# Altium footprint library Connector_PinHeader_1.00mm.PcbLib: 278 footprints (part 14 of 18)
Each footprint in its own frame and in the unit in brackets; x right, y up, seen from the top. Pads: shape width x height; smd on the part's side, far side on the other; paste and mask are expansions set on the pad; w line width, h text height; cw(c..) or ccw(c..) is an arc to the next point about the centre after c.
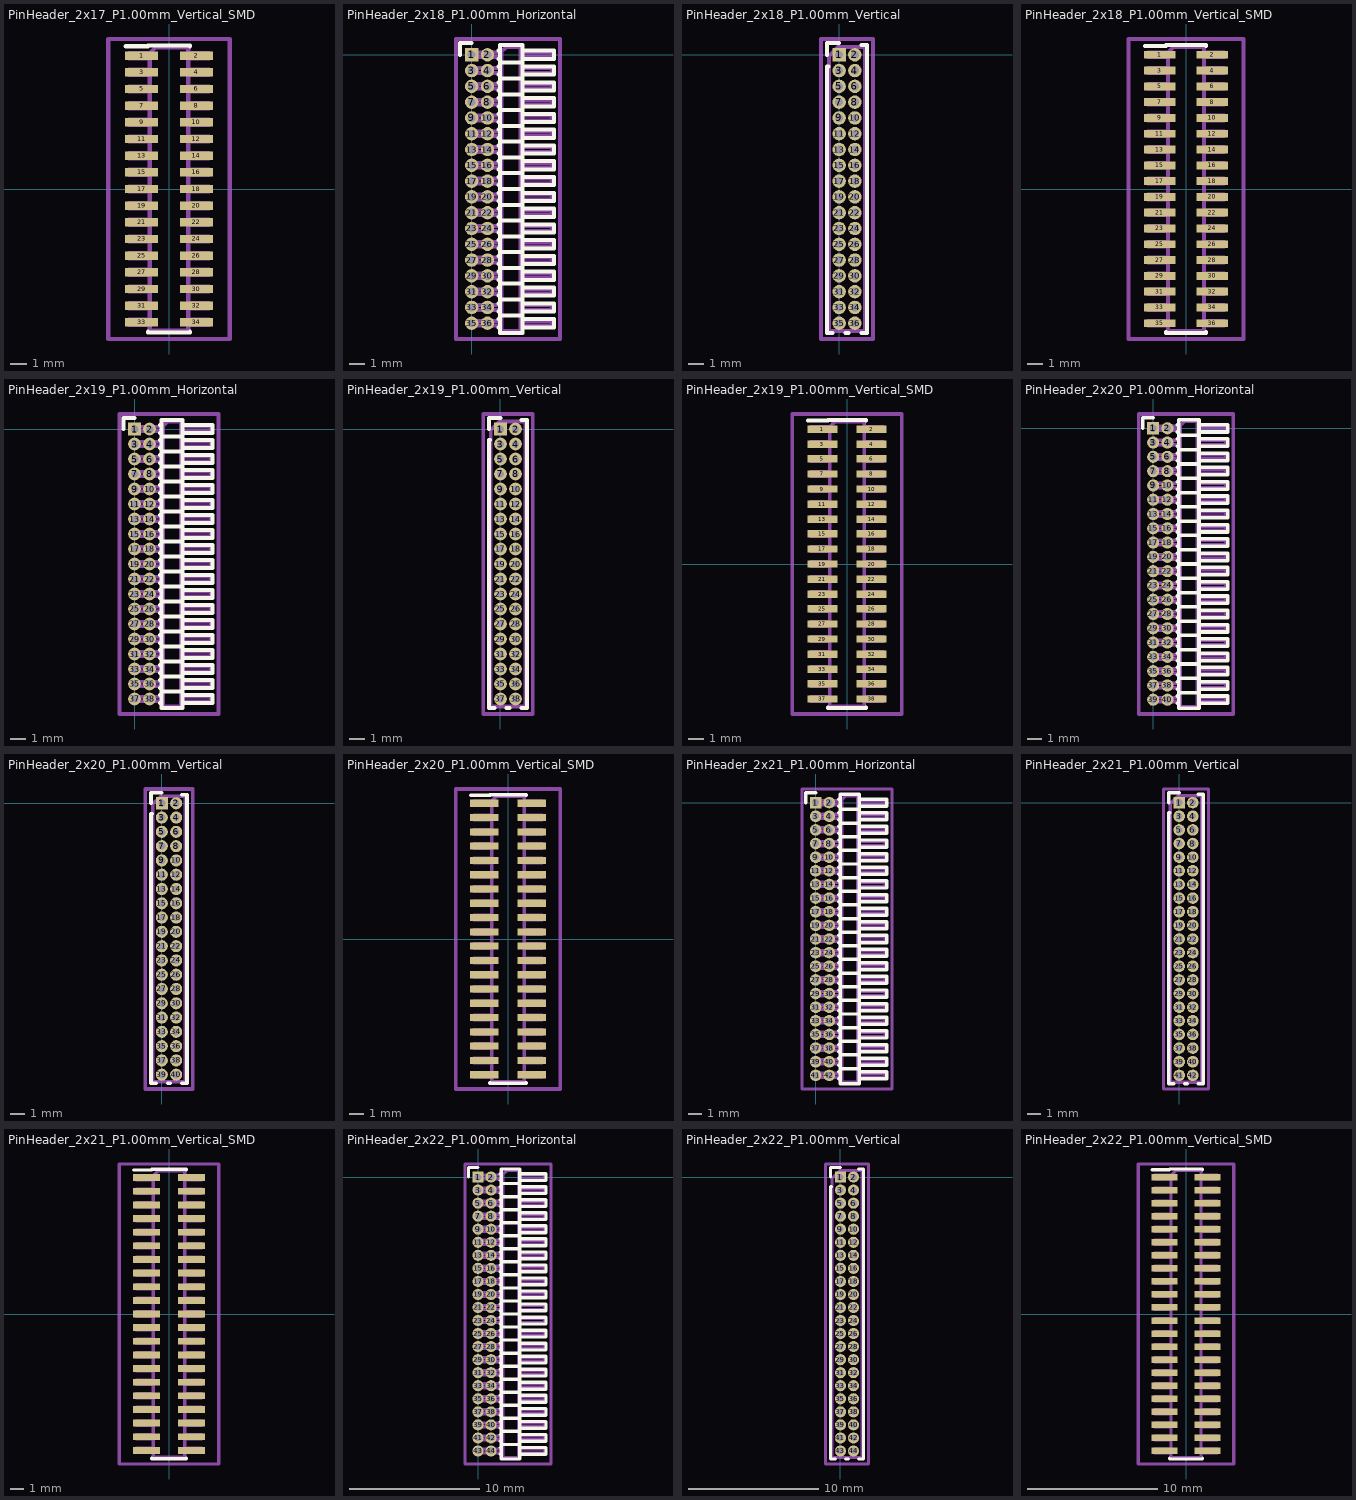
[diagram p13: the footprints below, top view; thin cyan lines are the x and y axes]

## PinHeader_2x17_P1.00mm_Vertical_SMD [mm]
pads (34):
  rect 2x0.5 smd: 1(-1.65,8) 2(1.65,8) 3(-1.65,7) 4(1.65,7) 5(-1.65,6) 6(1.65,6) 7(-1.65,5) 8(1.65,5) 9(-1.65,4) 10(1.65,4) 11(-1.65,3) 12(1.65,3) 13(-1.65,2) 14(1.65,2) 15(-1.65,1) 16(1.65,1) 17(-1.65,0) 18(1.65,0) 19(-1.65,-1) 20(1.65,-1) 21(-1.65,-2) 22(1.65,-2) 23(-1.65,-3) 24(1.65,-3) 25(-1.65,-4) 26(1.65,-4) 27(-1.65,-5) 28(1.65,-5) 29(-1.65,-6) 30(1.65,-6) 31(-1.65,-7) 32(1.65,-7) 33(-1.65,-8) 34(1.65,-8)
F.SilkS:
  lines w0.254: -2.59,8.56 -1.26,8.56 -1.26,8.61 1.26,8.61 1.26,8.56 ; -1.26,-8.56 -1.26,-8.61 1.26,-8.61 1.26,-8.56
Top Assembly:
  lines w0.254: -1.15,-8.15 -2.4,-8.15 -2.4,-7.85 -1.15,-7.85 ; -1.15,-7.15 -2.4,-7.15 -2.4,-6.85 -1.15,-6.85 ; -1.15,-6.15 -2.4,-6.15 -2.4,-5.85 -1.15,-5.85 ; -1.15,-5.15 -2.4,-5.15 -2.4,-4.85 -1.15,-4.85 ; -1.15,-4.15 -2.4,-4.15 -2.4,-3.85 -1.15,-3.85 ; -1.15,-3.15 -2.4,-3.15 -2.4,-2.85 -1.15,-2.85 ; -1.15,-2.15 -2.4,-2.15 -2.4,-1.85 -1.15,-1.85 ; -1.15,-1.15 -2.4,-1.15 -2.4,-0.85 -1.15,-0.85 ; -1.15,-0.15 -2.4,-0.15 -2.4,0.15 -1.15,0.15 ; -1.15,0.85 -2.4,0.85 -2.4,1.15 -1.15,1.15 ; -1.15,1.85 -2.4,1.85 -2.4,2.15 -1.15,2.15 ; -1.15,2.85 -2.4,2.85 -2.4,3.15 -1.15,3.15 ; -1.15,3.85 -2.4,3.85 -2.4,4.15 -1.15,4.15 ; -1.15,4.85 -2.4,4.85 -2.4,5.15 -1.15,5.15 ; -1.15,5.85 -2.4,5.85 -2.4,6.15 -1.15,6.15 ; -1.15,6.85 -2.4,6.85 -2.4,7.15 -1.15,7.15 ; -1.15,7.85 -2.4,7.85 -2.4,8.15 -1.15,8.15 ; 1.15,-8.15 2.4,-8.15 2.4,-7.85 1.15,-7.85 ; 1.15,-7.15 2.4,-7.15 2.4,-6.85 1.15,-6.85 ; 1.15,-6.15 2.4,-6.15 2.4,-5.85 1.15,-5.85 ; 1.15,-5.15 2.4,-5.15 2.4,-4.85 1.15,-4.85 ; 1.15,-4.15 2.4,-4.15 2.4,-3.85 1.15,-3.85 ; 1.15,-3.15 2.4,-3.15 2.4,-2.85 1.15,-2.85 ; 1.15,-2.15 2.4,-2.15 2.4,-1.85 1.15,-1.85 ; 1.15,-1.15 2.4,-1.15 2.4,-0.85 1.15,-0.85 ; 1.15,-0.15 2.4,-0.15 2.4,0.15 1.15,0.15 ; 1.15,0.85 2.4,0.85 2.4,1.15 1.15,1.15 ; 1.15,1.85 2.4,1.85 2.4,2.15 1.15,2.15 ; 1.15,2.85 2.4,2.85 2.4,3.15 1.15,3.15 ; 1.15,3.85 2.4,3.85 2.4,4.15 1.15,4.15 ; 1.15,4.85 2.4,4.85 2.4,5.15 1.15,5.15 ; 1.15,5.85 2.4,5.85 2.4,6.15 1.15,6.15 ; 1.15,6.85 2.4,6.85 2.4,7.15 1.15,7.15 ; 1.15,7.85 2.4,7.85 2.4,8.15 1.15,8.15 ; -1.15,8.15 -1.15,-8.5 1.15,-8.5 1.15,8.5 -0.8,8.5 -1.15,8.15
  text "'.Designator'" at 0.84,-4.047 h1
Top Courtyard:
  lines w0.254: -3.65,-9 3.65,-9 3.65,9 -3.65,9 -3.65,-9
Top Designator:
  text ".Designator" at -7.618,-0.508 h1.52

## PinHeader_2x18_P1.00mm_Horizontal [mm]
pads (36):
  rect 0.85x0.85 hole 0.5: 1(0,0)
  round 0.85 hole 0.5: 2(1,0) 3(0,-1) 4(1,-1) 5(0,-2) 6(1,-2) 7(0,-3) 8(1,-3) 9(0,-4) 10(1,-4) 11(0,-5) 12(1,-5) 13(0,-6) 14(1,-6) 15(0,-7) 16(1,-7) 17(0,-8) 18(1,-8) 19(0,-9) 20(1,-9) 21(0,-10) 22(1,-10) 23(0,-11) 24(1,-11) 25(0,-12) 26(1,-12) 27(0,-13) 28(1,-13) 29(0,-14) 30(1,-14) 31(0,-15) 32(1,-15) 33(0,-16) 34(1,-16) 35(0,-17) 36(1,-17)
F.SilkS:
  lines w0.254: -0.735,0 -0.735,0.735 0,0.735 ; 1.687,-17.26 1.79,-17.26 ; 1.687,-16.74 1.79,-16.74 ; 1.687,-16.26 1.79,-16.26 ; 1.687,-15.74 1.79,-15.74 ; 1.687,-15.26 1.79,-15.26 ; 1.687,-14.74 1.79,-14.74 ; 1.687,-14.26 1.79,-14.26 ; 1.687,-13.74 1.79,-13.74 ; 1.687,-13.26 1.79,-13.26 ; 1.687,-12.74 1.79,-12.74 ; 1.687,-12.26 1.79,-12.26 ; 1.687,-11.74 1.79,-11.74 ; 1.687,-11.26 1.79,-11.26 ; 1.687,-10.74 1.79,-10.74 ; 1.687,-10.26 1.79,-10.26 ; 1.687,-9.74 1.79,-9.74 ; 1.687,-9.26 1.79,-9.26 ; 1.687,-8.74 1.79,-8.74 ; 1.687,-8.26 1.79,-8.26 ; 1.687,-7.74 1.79,-7.74 ; 1.687,-7.26 1.79,-7.26 ; 1.687,-6.74 1.79,-6.74 ; 1.687,-6.26 1.79,-6.26 ; 1.687,-5.74 1.79,-5.74 ; 1.687,-5.26 1.79,-5.26 ; 1.687,-4.74 1.79,-4.74 ; 1.687,-4.26 1.79,-4.26 ; 1.687,-3.74 1.79,-3.74 ; 1.687,-3.26 1.79,-3.26 ; 1.687,-2.74 1.79,-2.74 ; 1.687,-2.26 1.79,-2.26 ; 1.687,-1.74 1.79,-1.74 ; 1.687,-1.26 1.79,-1.26 ; 1.687,-0.74 1.79,-0.74 ; 1.687,-0.26 1.79,-0.26 ; 1.687,0.26 1.79,0.26 ; 1.79,-16.5 3.21,-16.5 ; 1.79,-15.5 3.21,-15.5 ; 1.79,-14.5 3.21,-14.5 ; 1.79,-13.5 3.21,-13.5 ; 1.79,-12.5 3.21,-12.5 ; 1.79,-11.5 3.21,-11.5 ; 1.79,-10.5 3.21,-10.5 ; 1.79,-9.5 3.21,-9.5 ; 1.79,-8.5 3.21,-8.5 ; 1.79,-7.5 3.21,-7.5 ; 1.79,-6.5 3.21,-6.5 ; 1.79,-5.5 3.21,-5.5 ; 1.79,-4.5 3.21,-4.5 ; 1.79,-3.5 3.21,-3.5 ; 1.79,-2.5 3.21,-2.5 ; 1.79,-1.5 3.21,-1.5 ; 1.79,-0.5 3.21,-0.5 ; 3.21,-17.26 5.21,-17.26 5.21,-16.74 3.21,-16.74 ; 3.21,-16.26 5.21,-16.26 5.21,-15.74 3.21,-15.74 ; 3.21,-15.26 5.21,-15.26 5.21,-14.74 3.21,-14.74 ; 3.21,-14.26 5.21,-14.26 5.21,-13.74 3.21,-13.74 ; 3.21,-13.26 5.21,-13.26 5.21,-12.74 3.21,-12.74 ; 3.21,-12.26 5.21,-12.26 5.21,-11.74 3.21,-11.74 ; 3.21,-11.26 5.21,-11.26 5.21,-10.74 3.21,-10.74 ; 3.21,-10.26 5.21,-10.26 5.21,-9.74 3.21,-9.74 ; 3.21,-9.26 5.21,-9.26 5.21,-8.74 3.21,-8.74 ; 3.21,-8.26 5.21,-8.26 5.21,-7.74 3.21,-7.74 ; 3.21,-7.26 5.21,-7.26 5.21,-6.74 3.21,-6.74 ; 3.21,-6.26 5.21,-6.26 5.21,-5.74 3.21,-5.74 ; 3.21,-5.26 5.21,-5.26 5.21,-4.74 3.21,-4.74 ; 3.21,-4.26 5.21,-4.26 5.21,-3.74 3.21,-3.74 ; 3.21,-3.26 5.21,-3.26 5.21,-2.74 3.21,-2.74 ; 3.21,-2.26 5.21,-2.26 5.21,-1.74 3.21,-1.74 ; 3.21,-1.26 5.21,-1.26 5.21,-0.74 3.21,-0.74 ; 1.79,-17.61 3.21,-17.61 3.21,0.61 1.79,0.61 1.79,-17.61 ; 3.21,-0.26 5.21,-0.26 5.21,0.26 3.21,0.26 3.21,-0.26
Top Assembly:
  lines w0.254: 1.9,-17.15 -0.15,-17.15 -0.15,-16.85 1.9,-16.85 ; 1.9,-16.15 -0.15,-16.15 -0.15,-15.85 1.9,-15.85 ; 1.9,-15.15 -0.15,-15.15 -0.15,-14.85 1.9,-14.85 ; 1.9,-14.15 -0.15,-14.15 -0.15,-13.85 1.9,-13.85 ; 1.9,-13.15 -0.15,-13.15 -0.15,-12.85 1.9,-12.85 ; 1.9,-12.15 -0.15,-12.15 -0.15,-11.85 1.9,-11.85 ; 1.9,-11.15 -0.15,-11.15 -0.15,-10.85 1.9,-10.85 ; 1.9,-10.15 -0.15,-10.15 -0.15,-9.85 1.9,-9.85 ; 1.9,-9.15 -0.15,-9.15 -0.15,-8.85 1.9,-8.85 ; 1.9,-8.15 -0.15,-8.15 -0.15,-7.85 1.9,-7.85 ; 1.9,-7.15 -0.15,-7.15 -0.15,-6.85 1.9,-6.85 ; 1.9,-6.15 -0.15,-6.15 -0.15,-5.85 1.9,-5.85 ; 1.9,-5.15 -0.15,-5.15 -0.15,-4.85 1.9,-4.85 ; 1.9,-4.15 -0.15,-4.15 -0.15,-3.85 1.9,-3.85 ; 1.9,-3.15 -0.15,-3.15 -0.15,-2.85 1.9,-2.85 ; 1.9,-2.15 -0.15,-2.15 -0.15,-1.85 1.9,-1.85 ; 1.9,-1.15 -0.15,-1.15 -0.15,-0.85 1.9,-0.85 ; 1.9,-0.15 -0.15,-0.15 -0.15,0.15 1.9,0.15 ; 3.1,-17.15 5.1,-17.15 5.1,-16.85 3.1,-16.85 ; 3.1,-16.15 5.1,-16.15 5.1,-15.85 3.1,-15.85 ; 3.1,-15.15 5.1,-15.15 5.1,-14.85 3.1,-14.85 ; 3.1,-14.15 5.1,-14.15 5.1,-13.85 3.1,-13.85 ; 3.1,-13.15 5.1,-13.15 5.1,-12.85 3.1,-12.85 ; 3.1,-12.15 5.1,-12.15 5.1,-11.85 3.1,-11.85 ; 3.1,-11.15 5.1,-11.15 5.1,-10.85 3.1,-10.85 ; 3.1,-10.15 5.1,-10.15 5.1,-9.85 3.1,-9.85 ; 3.1,-9.15 5.1,-9.15 5.1,-8.85 3.1,-8.85 ; 3.1,-8.15 5.1,-8.15 5.1,-7.85 3.1,-7.85 ; 3.1,-7.15 5.1,-7.15 5.1,-6.85 3.1,-6.85 ; 3.1,-6.15 5.1,-6.15 5.1,-5.85 3.1,-5.85 ; 3.1,-5.15 5.1,-5.15 5.1,-4.85 3.1,-4.85 ; 3.1,-4.15 5.1,-4.15 5.1,-3.85 3.1,-3.85 ; 3.1,-3.15 5.1,-3.15 5.1,-2.85 3.1,-2.85 ; 3.1,-2.15 5.1,-2.15 5.1,-1.85 3.1,-1.85 ; 3.1,-1.15 5.1,-1.15 5.1,-0.85 3.1,-0.85 ; 3.1,-0.15 5.1,-0.15 5.1,0.15 3.1,0.15 ; 1.9,-17.5 3.1,-17.5 3.1,0.5 2.2,0.5 1.9,0.2 1.9,-17.5
  text "'.Designator'" at 3.105,-11.414 h0.72
Top Courtyard:
  lines w0.254: -1,-18 5.6,-18 5.6,1 -1,1 -1,-18
Top Designator:
  text ".Designator" at -5.318,-9.008 h1.52

## PinHeader_2x18_P1.00mm_Vertical [mm]
pads (36):
  rect 0.85x0.85 hole 0.5: 1(0,0)
  round 0.85 hole 0.5: 2(1,0) 3(0,-1) 4(1,-1) 5(0,-2) 6(1,-2) 7(0,-3) 8(1,-3) 9(0,-4) 10(1,-4) 11(0,-5) 12(1,-5) 13(0,-6) 14(1,-6) 15(0,-7) 16(1,-7) 17(0,-8) 18(1,-8) 19(0,-9) 20(1,-9) 21(0,-10) 22(1,-10) 23(0,-11) 24(1,-11) 25(0,-12) 26(1,-12) 27(0,-13) 28(1,-13) 29(0,-14) 30(1,-14) 31(0,-15) 32(1,-15) 33(0,-16) 34(1,-16) 35(0,-17) 36(1,-17)
F.SilkS:
  lines w0.254: -0.76,0 -0.76,0.735 0,0.735 ; -0.686,-0.735 -0.76,-0.735 -0.76,-17.61 -0.41,-17.61 ; 0.41,-17.61 0.59,-17.61 ; 1.41,-17.61 1.76,-17.61 1.76,0.61 1.41,0.61
Top Assembly:
  lines w0.254: -0.65,-17.5 1.65,-17.5 1.65,0.5 -0.075,0.5 -0.65,-0.075 -0.65,-17.5
  text "'.Designator'" at 1.34,-12.547 h1
Top Courtyard:
  lines w0.254: -1.15,-18 2.15,-18 2.15,1 -1.15,1 -1.15,-18
Top Designator:
  text ".Designator" at -7.118,-9.008 h1.52

## PinHeader_2x18_P1.00mm_Vertical_SMD [mm]
pads (36):
  rect 2x0.5 smd: 1(-1.65,8.5) 2(1.65,8.5) 3(-1.65,7.5) 4(1.65,7.5) 5(-1.65,6.5) 6(1.65,6.5) 7(-1.65,5.5) 8(1.65,5.5) 9(-1.65,4.5) 10(1.65,4.5) 11(-1.65,3.5) 12(1.65,3.5) 13(-1.65,2.5) 14(1.65,2.5) 15(-1.65,1.5) 16(1.65,1.5) 17(-1.65,0.5) 18(1.65,0.5) 19(-1.65,-0.5) 20(1.65,-0.5) 21(-1.65,-1.5) 22(1.65,-1.5) 23(-1.65,-2.5) 24(1.65,-2.5) 25(-1.65,-3.5) 26(1.65,-3.5) 27(-1.65,-4.5) 28(1.65,-4.5) 29(-1.65,-5.5) 30(1.65,-5.5) 31(-1.65,-6.5) 32(1.65,-6.5) 33(-1.65,-7.5) 34(1.65,-7.5) 35(-1.65,-8.5) 36(1.65,-8.5)
F.SilkS:
  lines w0.254: -2.59,9.06 -1.26,9.06 -1.26,9.11 1.26,9.11 1.26,9.06 ; -1.26,-9.06 -1.26,-9.11 1.26,-9.11 1.26,-9.06
Top Assembly:
  lines w0.254: -1.15,-8.65 -2.4,-8.65 -2.4,-8.35 -1.15,-8.35 ; -1.15,-7.65 -2.4,-7.65 -2.4,-7.35 -1.15,-7.35 ; -1.15,-6.65 -2.4,-6.65 -2.4,-6.35 -1.15,-6.35 ; -1.15,-5.65 -2.4,-5.65 -2.4,-5.35 -1.15,-5.35 ; -1.15,-4.65 -2.4,-4.65 -2.4,-4.35 -1.15,-4.35 ; -1.15,-3.65 -2.4,-3.65 -2.4,-3.35 -1.15,-3.35 ; -1.15,-2.65 -2.4,-2.65 -2.4,-2.35 -1.15,-2.35 ; -1.15,-1.65 -2.4,-1.65 -2.4,-1.35 -1.15,-1.35 ; -1.15,-0.65 -2.4,-0.65 -2.4,-0.35 -1.15,-0.35 ; -1.15,0.35 -2.4,0.35 -2.4,0.65 -1.15,0.65 ; -1.15,1.35 -2.4,1.35 -2.4,1.65 -1.15,1.65 ; -1.15,2.35 -2.4,2.35 -2.4,2.65 -1.15,2.65 ; -1.15,3.35 -2.4,3.35 -2.4,3.65 -1.15,3.65 ; -1.15,4.35 -2.4,4.35 -2.4,4.65 -1.15,4.65 ; -1.15,5.35 -2.4,5.35 -2.4,5.65 -1.15,5.65 ; -1.15,6.35 -2.4,6.35 -2.4,6.65 -1.15,6.65 ; -1.15,7.35 -2.4,7.35 -2.4,7.65 -1.15,7.65 ; -1.15,8.35 -2.4,8.35 -2.4,8.65 -1.15,8.65 ; 1.15,-8.65 2.4,-8.65 2.4,-8.35 1.15,-8.35 ; 1.15,-7.65 2.4,-7.65 2.4,-7.35 1.15,-7.35 ; 1.15,-6.65 2.4,-6.65 2.4,-6.35 1.15,-6.35 ; 1.15,-5.65 2.4,-5.65 2.4,-5.35 1.15,-5.35 ; 1.15,-4.65 2.4,-4.65 2.4,-4.35 1.15,-4.35 ; 1.15,-3.65 2.4,-3.65 2.4,-3.35 1.15,-3.35 ; 1.15,-2.65 2.4,-2.65 2.4,-2.35 1.15,-2.35 ; 1.15,-1.65 2.4,-1.65 2.4,-1.35 1.15,-1.35 ; 1.15,-0.65 2.4,-0.65 2.4,-0.35 1.15,-0.35 ; 1.15,0.35 2.4,0.35 2.4,0.65 1.15,0.65 ; 1.15,1.35 2.4,1.35 2.4,1.65 1.15,1.65 ; 1.15,2.35 2.4,2.35 2.4,2.65 1.15,2.65 ; 1.15,3.35 2.4,3.35 2.4,3.65 1.15,3.65 ; 1.15,4.35 2.4,4.35 2.4,4.65 1.15,4.65 ; 1.15,5.35 2.4,5.35 2.4,5.65 1.15,5.65 ; 1.15,6.35 2.4,6.35 2.4,6.65 1.15,6.65 ; 1.15,7.35 2.4,7.35 2.4,7.65 1.15,7.65 ; 1.15,8.35 2.4,8.35 2.4,8.65 1.15,8.65 ; -1.15,8.65 -1.15,-9 1.15,-9 1.15,9 -0.8,9 -1.15,8.65
  text "'.Designator'" at 0.84,-4.047 h1
Top Courtyard:
  lines w0.254: -3.65,-9.5 3.65,-9.5 3.65,9.5 -3.65,9.5 -3.65,-9.5
Top Designator:
  text ".Designator" at -7.618,-0.508 h1.52

## PinHeader_2x19_P1.00mm_Horizontal [mm]
pads (38):
  rect 0.85x0.85 hole 0.5: 1(0,0)
  round 0.85 hole 0.5: 2(1,0) 3(0,-1) 4(1,-1) 5(0,-2) 6(1,-2) 7(0,-3) 8(1,-3) 9(0,-4) 10(1,-4) 11(0,-5) 12(1,-5) 13(0,-6) 14(1,-6) 15(0,-7) 16(1,-7) 17(0,-8) 18(1,-8) 19(0,-9) 20(1,-9) 21(0,-10) 22(1,-10) 23(0,-11) 24(1,-11) 25(0,-12) 26(1,-12) 27(0,-13) 28(1,-13) 29(0,-14) 30(1,-14) 31(0,-15) 32(1,-15) 33(0,-16) 34(1,-16) 35(0,-17) 36(1,-17) 37(0,-18) 38(1,-18)
F.SilkS:
  lines w0.254: -0.735,0 -0.735,0.735 0,0.735 ; 1.687,-18.26 1.79,-18.26 ; 1.687,-17.74 1.79,-17.74 ; 1.687,-17.26 1.79,-17.26 ; 1.687,-16.74 1.79,-16.74 ; 1.687,-16.26 1.79,-16.26 ; 1.687,-15.74 1.79,-15.74 ; 1.687,-15.26 1.79,-15.26 ; 1.687,-14.74 1.79,-14.74 ; 1.687,-14.26 1.79,-14.26 ; 1.687,-13.74 1.79,-13.74 ; 1.687,-13.26 1.79,-13.26 ; 1.687,-12.74 1.79,-12.74 ; 1.687,-12.26 1.79,-12.26 ; 1.687,-11.74 1.79,-11.74 ; 1.687,-11.26 1.79,-11.26 ; 1.687,-10.74 1.79,-10.74 ; 1.687,-10.26 1.79,-10.26 ; 1.687,-9.74 1.79,-9.74 ; 1.687,-9.26 1.79,-9.26 ; 1.687,-8.74 1.79,-8.74 ; 1.687,-8.26 1.79,-8.26 ; 1.687,-7.74 1.79,-7.74 ; 1.687,-7.26 1.79,-7.26 ; 1.687,-6.74 1.79,-6.74 ; 1.687,-6.26 1.79,-6.26 ; 1.687,-5.74 1.79,-5.74 ; 1.687,-5.26 1.79,-5.26 ; 1.687,-4.74 1.79,-4.74 ; 1.687,-4.26 1.79,-4.26 ; 1.687,-3.74 1.79,-3.74 ; 1.687,-3.26 1.79,-3.26 ; 1.687,-2.74 1.79,-2.74 ; 1.687,-2.26 1.79,-2.26 ; 1.687,-1.74 1.79,-1.74 ; 1.687,-1.26 1.79,-1.26 ; 1.687,-0.74 1.79,-0.74 ; 1.687,-0.26 1.79,-0.26 ; 1.687,0.26 1.79,0.26 ; 1.79,-17.5 3.21,-17.5 ; 1.79,-16.5 3.21,-16.5 ; 1.79,-15.5 3.21,-15.5 ; 1.79,-14.5 3.21,-14.5 ; 1.79,-13.5 3.21,-13.5 ; 1.79,-12.5 3.21,-12.5 ; 1.79,-11.5 3.21,-11.5 ; 1.79,-10.5 3.21,-10.5 ; 1.79,-9.5 3.21,-9.5 ; 1.79,-8.5 3.21,-8.5 ; 1.79,-7.5 3.21,-7.5 ; 1.79,-6.5 3.21,-6.5 ; 1.79,-5.5 3.21,-5.5 ; 1.79,-4.5 3.21,-4.5 ; 1.79,-3.5 3.21,-3.5 ; 1.79,-2.5 3.21,-2.5 ; 1.79,-1.5 3.21,-1.5 ; 1.79,-0.5 3.21,-0.5 ; 3.21,-18.26 5.21,-18.26 5.21,-17.74 3.21,-17.74 ; 3.21,-17.26 5.21,-17.26 5.21,-16.74 3.21,-16.74 ; 3.21,-16.26 5.21,-16.26 5.21,-15.74 3.21,-15.74 ; 3.21,-15.26 5.21,-15.26 5.21,-14.74 3.21,-14.74 ; 3.21,-14.26 5.21,-14.26 5.21,-13.74 3.21,-13.74 ; 3.21,-13.26 5.21,-13.26 5.21,-12.74 3.21,-12.74 ; 3.21,-12.26 5.21,-12.26 5.21,-11.74 3.21,-11.74 ; 3.21,-11.26 5.21,-11.26 5.21,-10.74 3.21,-10.74 ; 3.21,-10.26 5.21,-10.26 5.21,-9.74 3.21,-9.74 ; 3.21,-9.26 5.21,-9.26 5.21,-8.74 3.21,-8.74 ; 3.21,-8.26 5.21,-8.26 5.21,-7.74 3.21,-7.74 ; 3.21,-7.26 5.21,-7.26 5.21,-6.74 3.21,-6.74 ; 3.21,-6.26 5.21,-6.26 5.21,-5.74 3.21,-5.74 ; 3.21,-5.26 5.21,-5.26 5.21,-4.74 3.21,-4.74 ; 3.21,-4.26 5.21,-4.26 5.21,-3.74 3.21,-3.74 ; 3.21,-3.26 5.21,-3.26 5.21,-2.74 3.21,-2.74 ; 3.21,-2.26 5.21,-2.26 5.21,-1.74 3.21,-1.74 ; 3.21,-1.26 5.21,-1.26 5.21,-0.74 3.21,-0.74 ; 1.79,-18.61 3.21,-18.61 3.21,0.61 1.79,0.61 1.79,-18.61 ; 3.21,-0.26 5.21,-0.26 5.21,0.26 3.21,0.26 3.21,-0.26
Top Assembly:
  lines w0.254: 1.9,-18.15 -0.15,-18.15 -0.15,-17.85 1.9,-17.85 ; 1.9,-17.15 -0.15,-17.15 -0.15,-16.85 1.9,-16.85 ; 1.9,-16.15 -0.15,-16.15 -0.15,-15.85 1.9,-15.85 ; 1.9,-15.15 -0.15,-15.15 -0.15,-14.85 1.9,-14.85 ; 1.9,-14.15 -0.15,-14.15 -0.15,-13.85 1.9,-13.85 ; 1.9,-13.15 -0.15,-13.15 -0.15,-12.85 1.9,-12.85 ; 1.9,-12.15 -0.15,-12.15 -0.15,-11.85 1.9,-11.85 ; 1.9,-11.15 -0.15,-11.15 -0.15,-10.85 1.9,-10.85 ; 1.9,-10.15 -0.15,-10.15 -0.15,-9.85 1.9,-9.85 ; 1.9,-9.15 -0.15,-9.15 -0.15,-8.85 1.9,-8.85 ; 1.9,-8.15 -0.15,-8.15 -0.15,-7.85 1.9,-7.85 ; 1.9,-7.15 -0.15,-7.15 -0.15,-6.85 1.9,-6.85 ; 1.9,-6.15 -0.15,-6.15 -0.15,-5.85 1.9,-5.85 ; 1.9,-5.15 -0.15,-5.15 -0.15,-4.85 1.9,-4.85 ; 1.9,-4.15 -0.15,-4.15 -0.15,-3.85 1.9,-3.85 ; 1.9,-3.15 -0.15,-3.15 -0.15,-2.85 1.9,-2.85 ; 1.9,-2.15 -0.15,-2.15 -0.15,-1.85 1.9,-1.85 ; 1.9,-1.15 -0.15,-1.15 -0.15,-0.85 1.9,-0.85 ; 1.9,-0.15 -0.15,-0.15 -0.15,0.15 1.9,0.15 ; 3.1,-18.15 5.1,-18.15 5.1,-17.85 3.1,-17.85 ; 3.1,-17.15 5.1,-17.15 5.1,-16.85 3.1,-16.85 ; 3.1,-16.15 5.1,-16.15 5.1,-15.85 3.1,-15.85 ; 3.1,-15.15 5.1,-15.15 5.1,-14.85 3.1,-14.85 ; 3.1,-14.15 5.1,-14.15 5.1,-13.85 3.1,-13.85 ; 3.1,-13.15 5.1,-13.15 5.1,-12.85 3.1,-12.85 ; 3.1,-12.15 5.1,-12.15 5.1,-11.85 3.1,-11.85 ; 3.1,-11.15 5.1,-11.15 5.1,-10.85 3.1,-10.85 ; 3.1,-10.15 5.1,-10.15 5.1,-9.85 3.1,-9.85 ; 3.1,-9.15 5.1,-9.15 5.1,-8.85 3.1,-8.85 ; 3.1,-8.15 5.1,-8.15 5.1,-7.85 3.1,-7.85 ; 3.1,-7.15 5.1,-7.15 5.1,-6.85 3.1,-6.85 ; 3.1,-6.15 5.1,-6.15 5.1,-5.85 3.1,-5.85 ; 3.1,-5.15 5.1,-5.15 5.1,-4.85 3.1,-4.85 ; 3.1,-4.15 5.1,-4.15 5.1,-3.85 3.1,-3.85 ; 3.1,-3.15 5.1,-3.15 5.1,-2.85 3.1,-2.85 ; 3.1,-2.15 5.1,-2.15 5.1,-1.85 3.1,-1.85 ; 3.1,-1.15 5.1,-1.15 5.1,-0.85 3.1,-0.85 ; 3.1,-0.15 5.1,-0.15 5.1,0.15 3.1,0.15 ; 1.9,-18.5 3.1,-18.5 3.1,0.5 2.2,0.5 1.9,0.2 1.9,-18.5
  text "'.Designator'" at 3.105,-11.914 h0.72
Top Courtyard:
  lines w0.254: -1,-19 5.6,-19 5.6,1 -1,1 -1,-19
Top Designator:
  text ".Designator" at -5.318,-9.508 h1.52

## PinHeader_2x19_P1.00mm_Vertical [mm]
pads (38):
  rect 0.85x0.85 hole 0.5: 1(0,0)
  round 0.85 hole 0.5: 2(1,0) 3(0,-1) 4(1,-1) 5(0,-2) 6(1,-2) 7(0,-3) 8(1,-3) 9(0,-4) 10(1,-4) 11(0,-5) 12(1,-5) 13(0,-6) 14(1,-6) 15(0,-7) 16(1,-7) 17(0,-8) 18(1,-8) 19(0,-9) 20(1,-9) 21(0,-10) 22(1,-10) 23(0,-11) 24(1,-11) 25(0,-12) 26(1,-12) 27(0,-13) 28(1,-13) 29(0,-14) 30(1,-14) 31(0,-15) 32(1,-15) 33(0,-16) 34(1,-16) 35(0,-17) 36(1,-17) 37(0,-18) 38(1,-18)
F.SilkS:
  lines w0.254: -0.76,0 -0.76,0.735 0,0.735 ; -0.686,-0.735 -0.76,-0.735 -0.76,-18.61 -0.41,-18.61 ; 0.41,-18.61 0.59,-18.61 ; 1.41,-18.61 1.76,-18.61 1.76,0.61 1.41,0.61
Top Assembly:
  lines w0.254: -0.65,-18.5 1.65,-18.5 1.65,0.5 -0.075,0.5 -0.65,-0.075 -0.65,-18.5
  text "'.Designator'" at 1.34,-13.047 h1
Top Courtyard:
  lines w0.254: -1.15,-19 2.15,-19 2.15,1 -1.15,1 -1.15,-19
Top Designator:
  text ".Designator" at -7.118,-9.508 h1.52

## PinHeader_2x19_P1.00mm_Vertical_SMD [mm]
pads (38):
  rect 2x0.5 smd: 1(-1.65,9) 2(1.65,9) 3(-1.65,8) 4(1.65,8) 5(-1.65,7) 6(1.65,7) 7(-1.65,6) 8(1.65,6) 9(-1.65,5) 10(1.65,5) 11(-1.65,4) 12(1.65,4) 13(-1.65,3) 14(1.65,3) 15(-1.65,2) 16(1.65,2) 17(-1.65,1) 18(1.65,1) 19(-1.65,0) 20(1.65,0) 21(-1.65,-1) 22(1.65,-1) 23(-1.65,-2) 24(1.65,-2) 25(-1.65,-3) 26(1.65,-3) 27(-1.65,-4) 28(1.65,-4) 29(-1.65,-5) 30(1.65,-5) 31(-1.65,-6) 32(1.65,-6) 33(-1.65,-7) 34(1.65,-7) 35(-1.65,-8) 36(1.65,-8) 37(-1.65,-9) 38(1.65,-9)
F.SilkS:
  lines w0.254: -2.59,9.56 -1.26,9.56 -1.26,9.61 1.26,9.61 1.26,9.56 ; -1.26,-9.56 -1.26,-9.61 1.26,-9.61 1.26,-9.56
Top Assembly:
  lines w0.254: -1.15,-9.15 -2.4,-9.15 -2.4,-8.85 -1.15,-8.85 ; -1.15,-8.15 -2.4,-8.15 -2.4,-7.85 -1.15,-7.85 ; -1.15,-7.15 -2.4,-7.15 -2.4,-6.85 -1.15,-6.85 ; -1.15,-6.15 -2.4,-6.15 -2.4,-5.85 -1.15,-5.85 ; -1.15,-5.15 -2.4,-5.15 -2.4,-4.85 -1.15,-4.85 ; -1.15,-4.15 -2.4,-4.15 -2.4,-3.85 -1.15,-3.85 ; -1.15,-3.15 -2.4,-3.15 -2.4,-2.85 -1.15,-2.85 ; -1.15,-2.15 -2.4,-2.15 -2.4,-1.85 -1.15,-1.85 ; -1.15,-1.15 -2.4,-1.15 -2.4,-0.85 -1.15,-0.85 ; -1.15,-0.15 -2.4,-0.15 -2.4,0.15 -1.15,0.15 ; -1.15,0.85 -2.4,0.85 -2.4,1.15 -1.15,1.15 ; -1.15,1.85 -2.4,1.85 -2.4,2.15 -1.15,2.15 ; -1.15,2.85 -2.4,2.85 -2.4,3.15 -1.15,3.15 ; -1.15,3.85 -2.4,3.85 -2.4,4.15 -1.15,4.15 ; -1.15,4.85 -2.4,4.85 -2.4,5.15 -1.15,5.15 ; -1.15,5.85 -2.4,5.85 -2.4,6.15 -1.15,6.15 ; -1.15,6.85 -2.4,6.85 -2.4,7.15 -1.15,7.15 ; -1.15,7.85 -2.4,7.85 -2.4,8.15 -1.15,8.15 ; -1.15,8.85 -2.4,8.85 -2.4,9.15 -1.15,9.15 ; 1.15,-9.15 2.4,-9.15 2.4,-8.85 1.15,-8.85 ; 1.15,-8.15 2.4,-8.15 2.4,-7.85 1.15,-7.85 ; 1.15,-7.15 2.4,-7.15 2.4,-6.85 1.15,-6.85 ; 1.15,-6.15 2.4,-6.15 2.4,-5.85 1.15,-5.85 ; 1.15,-5.15 2.4,-5.15 2.4,-4.85 1.15,-4.85 ; 1.15,-4.15 2.4,-4.15 2.4,-3.85 1.15,-3.85 ; 1.15,-3.15 2.4,-3.15 2.4,-2.85 1.15,-2.85 ; 1.15,-2.15 2.4,-2.15 2.4,-1.85 1.15,-1.85 ; 1.15,-1.15 2.4,-1.15 2.4,-0.85 1.15,-0.85 ; 1.15,-0.15 2.4,-0.15 2.4,0.15 1.15,0.15 ; 1.15,0.85 2.4,0.85 2.4,1.15 1.15,1.15 ; 1.15,1.85 2.4,1.85 2.4,2.15 1.15,2.15 ; 1.15,2.85 2.4,2.85 2.4,3.15 1.15,3.15 ; 1.15,3.85 2.4,3.85 2.4,4.15 1.15,4.15 ; 1.15,4.85 2.4,4.85 2.4,5.15 1.15,5.15 ; 1.15,5.85 2.4,5.85 2.4,6.15 1.15,6.15 ; 1.15,6.85 2.4,6.85 2.4,7.15 1.15,7.15 ; 1.15,7.85 2.4,7.85 2.4,8.15 1.15,8.15 ; 1.15,8.85 2.4,8.85 2.4,9.15 1.15,9.15 ; -1.15,9.15 -1.15,-9.5 1.15,-9.5 1.15,9.5 -0.8,9.5 -1.15,9.15
  text "'.Designator'" at 0.84,-4.047 h1
Top Courtyard:
  lines w0.254: -3.65,-10 3.65,-10 3.65,10 -3.65,10 -3.65,-10
Top Designator:
  text ".Designator" at -7.618,-0.508 h1.52

## PinHeader_2x20_P1.00mm_Horizontal [mm]
pads (40):
  rect 0.85x0.85 hole 0.5: 1(0,0)
  round 0.85 hole 0.5: 2(1,0) 3(0,-1) 4(1,-1) 5(0,-2) 6(1,-2) 7(0,-3) 8(1,-3) 9(0,-4) 10(1,-4) 11(0,-5) 12(1,-5) 13(0,-6) 14(1,-6) 15(0,-7) 16(1,-7) 17(0,-8) 18(1,-8) 19(0,-9) 20(1,-9) 21(0,-10) 22(1,-10) 23(0,-11) 24(1,-11) 25(0,-12) 26(1,-12) 27(0,-13) 28(1,-13) 29(0,-14) 30(1,-14) 31(0,-15) 32(1,-15) 33(0,-16) 34(1,-16) 35(0,-17) 36(1,-17) 37(0,-18) 38(1,-18) 39(0,-19) 40(1,-19)
F.SilkS:
  lines w0.254: -0.735,0 -0.735,0.735 0,0.735 ; 1.687,-19.26 1.79,-19.26 ; 1.687,-18.74 1.79,-18.74 ; 1.687,-18.26 1.79,-18.26 ; 1.687,-17.74 1.79,-17.74 ; 1.687,-17.26 1.79,-17.26 ; 1.687,-16.74 1.79,-16.74 ; 1.687,-16.26 1.79,-16.26 ; 1.687,-15.74 1.79,-15.74 ; 1.687,-15.26 1.79,-15.26 ; 1.687,-14.74 1.79,-14.74 ; 1.687,-14.26 1.79,-14.26 ; 1.687,-13.74 1.79,-13.74 ; 1.687,-13.26 1.79,-13.26 ; 1.687,-12.74 1.79,-12.74 ; 1.687,-12.26 1.79,-12.26 ; 1.687,-11.74 1.79,-11.74 ; 1.687,-11.26 1.79,-11.26 ; 1.687,-10.74 1.79,-10.74 ; 1.687,-10.26 1.79,-10.26 ; 1.687,-9.74 1.79,-9.74 ; 1.687,-9.26 1.79,-9.26 ; 1.687,-8.74 1.79,-8.74 ; 1.687,-8.26 1.79,-8.26 ; 1.687,-7.74 1.79,-7.74 ; 1.687,-7.26 1.79,-7.26 ; 1.687,-6.74 1.79,-6.74 ; 1.687,-6.26 1.79,-6.26 ; 1.687,-5.74 1.79,-5.74 ; 1.687,-5.26 1.79,-5.26 ; 1.687,-4.74 1.79,-4.74 ; 1.687,-4.26 1.79,-4.26 ; 1.687,-3.74 1.79,-3.74 ; 1.687,-3.26 1.79,-3.26 ; 1.687,-2.74 1.79,-2.74 ; 1.687,-2.26 1.79,-2.26 ; 1.687,-1.74 1.79,-1.74 ; 1.687,-1.26 1.79,-1.26 ; 1.687,-0.74 1.79,-0.74 ; 1.687,-0.26 1.79,-0.26 ; 1.687,0.26 1.79,0.26 ; 1.79,-18.5 3.21,-18.5 ; 1.79,-17.5 3.21,-17.5 ; 1.79,-16.5 3.21,-16.5 ; 1.79,-15.5 3.21,-15.5 ; 1.79,-14.5 3.21,-14.5 ; 1.79,-13.5 3.21,-13.5 ; 1.79,-12.5 3.21,-12.5 ; 1.79,-11.5 3.21,-11.5 ; 1.79,-10.5 3.21,-10.5 ; 1.79,-9.5 3.21,-9.5 ; 1.79,-8.5 3.21,-8.5 ; 1.79,-7.5 3.21,-7.5 ; 1.79,-6.5 3.21,-6.5 ; 1.79,-5.5 3.21,-5.5 ; 1.79,-4.5 3.21,-4.5 ; 1.79,-3.5 3.21,-3.5 ; 1.79,-2.5 3.21,-2.5 ; 1.79,-1.5 3.21,-1.5 ; 1.79,-0.5 3.21,-0.5 ; 3.21,-19.26 5.21,-19.26 5.21,-18.74 3.21,-18.74 ; 3.21,-18.26 5.21,-18.26 5.21,-17.74 3.21,-17.74 ; 3.21,-17.26 5.21,-17.26 5.21,-16.74 3.21,-16.74 ; 3.21,-16.26 5.21,-16.26 5.21,-15.74 3.21,-15.74 ; 3.21,-15.26 5.21,-15.26 5.21,-14.74 3.21,-14.74 ; 3.21,-14.26 5.21,-14.26 5.21,-13.74 3.21,-13.74 ; 3.21,-13.26 5.21,-13.26 5.21,-12.74 3.21,-12.74 ; 3.21,-12.26 5.21,-12.26 5.21,-11.74 3.21,-11.74 ; 3.21,-11.26 5.21,-11.26 5.21,-10.74 3.21,-10.74 ; 3.21,-10.26 5.21,-10.26 5.21,-9.74 3.21,-9.74 ; 3.21,-9.26 5.21,-9.26 5.21,-8.74 3.21,-8.74 ; 3.21,-8.26 5.21,-8.26 5.21,-7.74 3.21,-7.74 ; 3.21,-7.26 5.21,-7.26 5.21,-6.74 3.21,-6.74 ; 3.21,-6.26 5.21,-6.26 5.21,-5.74 3.21,-5.74 ; 3.21,-5.26 5.21,-5.26 5.21,-4.74 3.21,-4.74 ; 3.21,-4.26 5.21,-4.26 5.21,-3.74 3.21,-3.74 ; 3.21,-3.26 5.21,-3.26 5.21,-2.74 3.21,-2.74 ; 3.21,-2.26 5.21,-2.26 5.21,-1.74 3.21,-1.74 ; 3.21,-1.26 5.21,-1.26 5.21,-0.74 3.21,-0.74 ; 1.79,-19.61 3.21,-19.61 3.21,0.61 1.79,0.61 1.79,-19.61 ; 3.21,-0.26 5.21,-0.26 5.21,0.26 3.21,0.26 3.21,-0.26
Top Assembly:
  lines w0.254: 1.9,-19.15 -0.15,-19.15 -0.15,-18.85 1.9,-18.85 ; 1.9,-18.15 -0.15,-18.15 -0.15,-17.85 1.9,-17.85 ; 1.9,-17.15 -0.15,-17.15 -0.15,-16.85 1.9,-16.85 ; 1.9,-16.15 -0.15,-16.15 -0.15,-15.85 1.9,-15.85 ; 1.9,-15.15 -0.15,-15.15 -0.15,-14.85 1.9,-14.85 ; 1.9,-14.15 -0.15,-14.15 -0.15,-13.85 1.9,-13.85 ; 1.9,-13.15 -0.15,-13.15 -0.15,-12.85 1.9,-12.85 ; 1.9,-12.15 -0.15,-12.15 -0.15,-11.85 1.9,-11.85 ; 1.9,-11.15 -0.15,-11.15 -0.15,-10.85 1.9,-10.85 ; 1.9,-10.15 -0.15,-10.15 -0.15,-9.85 1.9,-9.85 ; 1.9,-9.15 -0.15,-9.15 -0.15,-8.85 1.9,-8.85 ; 1.9,-8.15 -0.15,-8.15 -0.15,-7.85 1.9,-7.85 ; 1.9,-7.15 -0.15,-7.15 -0.15,-6.85 1.9,-6.85 ; 1.9,-6.15 -0.15,-6.15 -0.15,-5.85 1.9,-5.85 ; 1.9,-5.15 -0.15,-5.15 -0.15,-4.85 1.9,-4.85 ; 1.9,-4.15 -0.15,-4.15 -0.15,-3.85 1.9,-3.85 ; 1.9,-3.15 -0.15,-3.15 -0.15,-2.85 1.9,-2.85 ; 1.9,-2.15 -0.15,-2.15 -0.15,-1.85 1.9,-1.85 ; 1.9,-1.15 -0.15,-1.15 -0.15,-0.85 1.9,-0.85 ; 1.9,-0.15 -0.15,-0.15 -0.15,0.15 1.9,0.15 ; 3.1,-19.15 5.1,-19.15 5.1,-18.85 3.1,-18.85 ; 3.1,-18.15 5.1,-18.15 5.1,-17.85 3.1,-17.85 ; 3.1,-17.15 5.1,-17.15 5.1,-16.85 3.1,-16.85 ; 3.1,-16.15 5.1,-16.15 5.1,-15.85 3.1,-15.85 ; 3.1,-15.15 5.1,-15.15 5.1,-14.85 3.1,-14.85 ; 3.1,-14.15 5.1,-14.15 5.1,-13.85 3.1,-13.85 ; 3.1,-13.15 5.1,-13.15 5.1,-12.85 3.1,-12.85 ; 3.1,-12.15 5.1,-12.15 5.1,-11.85 3.1,-11.85 ; 3.1,-11.15 5.1,-11.15 5.1,-10.85 3.1,-10.85 ; 3.1,-10.15 5.1,-10.15 5.1,-9.85 3.1,-9.85 ; 3.1,-9.15 5.1,-9.15 5.1,-8.85 3.1,-8.85 ; 3.1,-8.15 5.1,-8.15 5.1,-7.85 3.1,-7.85 ; 3.1,-7.15 5.1,-7.15 5.1,-6.85 3.1,-6.85 ; 3.1,-6.15 5.1,-6.15 5.1,-5.85 3.1,-5.85 ; 3.1,-5.15 5.1,-5.15 5.1,-4.85 3.1,-4.85 ; 3.1,-4.15 5.1,-4.15 5.1,-3.85 3.1,-3.85 ; 3.1,-3.15 5.1,-3.15 5.1,-2.85 3.1,-2.85 ; 3.1,-2.15 5.1,-2.15 5.1,-1.85 3.1,-1.85 ; 3.1,-1.15 5.1,-1.15 5.1,-0.85 3.1,-0.85 ; 3.1,-0.15 5.1,-0.15 5.1,0.15 3.1,0.15 ; 1.9,-19.5 3.1,-19.5 3.1,0.5 2.2,0.5 1.9,0.2 1.9,-19.5
  text "'.Designator'" at 3.105,-12.414 h0.72
Top Courtyard:
  lines w0.254: -1,-20 5.6,-20 5.6,1 -1,1 -1,-20
Top Designator:
  text ".Designator" at -5.318,-10.008 h1.52

## PinHeader_2x20_P1.00mm_Vertical [mm]
pads (40):
  rect 0.85x0.85 hole 0.5: 1(0,0)
  round 0.85 hole 0.5: 2(1,0) 3(0,-1) 4(1,-1) 5(0,-2) 6(1,-2) 7(0,-3) 8(1,-3) 9(0,-4) 10(1,-4) 11(0,-5) 12(1,-5) 13(0,-6) 14(1,-6) 15(0,-7) 16(1,-7) 17(0,-8) 18(1,-8) 19(0,-9) 20(1,-9) 21(0,-10) 22(1,-10) 23(0,-11) 24(1,-11) 25(0,-12) 26(1,-12) 27(0,-13) 28(1,-13) 29(0,-14) 30(1,-14) 31(0,-15) 32(1,-15) 33(0,-16) 34(1,-16) 35(0,-17) 36(1,-17) 37(0,-18) 38(1,-18) 39(0,-19) 40(1,-19)
F.SilkS:
  lines w0.254: -0.76,0 -0.76,0.735 0,0.735 ; -0.686,-0.735 -0.76,-0.735 -0.76,-19.61 -0.41,-19.61 ; 0.41,-19.61 0.59,-19.61 ; 1.41,-19.61 1.76,-19.61 1.76,0.61 1.41,0.61
Top Assembly:
  lines w0.254: -0.65,-19.5 1.65,-19.5 1.65,0.5 -0.075,0.5 -0.65,-0.075 -0.65,-19.5
  text "'.Designator'" at 1.34,-13.547 h1
Top Courtyard:
  lines w0.254: -1.15,-20 2.15,-20 2.15,1 -1.15,1 -1.15,-20
Top Designator:
  text ".Designator" at -7.118,-10.008 h1.52

## PinHeader_2x20_P1.00mm_Vertical_SMD [mm]
pads (40):
  rect 2x0.5 smd: 1(-1.65,9.5) 2(1.65,9.5) 3(-1.65,8.5) 4(1.65,8.5) 5(-1.65,7.5) 6(1.65,7.5) 7(-1.65,6.5) 8(1.65,6.5) 9(-1.65,5.5) 10(1.65,5.5) 11(-1.65,4.5) 12(1.65,4.5) 13(-1.65,3.5) 14(1.65,3.5) 15(-1.65,2.5) 16(1.65,2.5) 17(-1.65,1.5) 18(1.65,1.5) 19(-1.65,0.5) 20(1.65,0.5) 21(-1.65,-0.5) 22(1.65,-0.5) 23(-1.65,-1.5) 24(1.65,-1.5) 25(-1.65,-2.5) 26(1.65,-2.5) 27(-1.65,-3.5) 28(1.65,-3.5) 29(-1.65,-4.5) 30(1.65,-4.5) 31(-1.65,-5.5) 32(1.65,-5.5) 33(-1.65,-6.5) 34(1.65,-6.5) 35(-1.65,-7.5) 36(1.65,-7.5) 37(-1.65,-8.5) 38(1.65,-8.5) 39(-1.65,-9.5) 40(1.65,-9.5)
F.SilkS:
  lines w0.254: -2.59,10.06 -1.26,10.06 -1.26,10.11 1.26,10.11 1.26,10.06 ; -1.26,-10.06 -1.26,-10.11 1.26,-10.11 1.26,-10.06
Top Assembly:
  lines w0.254: -1.15,-9.65 -2.4,-9.65 -2.4,-9.35 -1.15,-9.35 ; -1.15,-8.65 -2.4,-8.65 -2.4,-8.35 -1.15,-8.35 ; -1.15,-7.65 -2.4,-7.65 -2.4,-7.35 -1.15,-7.35 ; -1.15,-6.65 -2.4,-6.65 -2.4,-6.35 -1.15,-6.35 ; -1.15,-5.65 -2.4,-5.65 -2.4,-5.35 -1.15,-5.35 ; -1.15,-4.65 -2.4,-4.65 -2.4,-4.35 -1.15,-4.35 ; -1.15,-3.65 -2.4,-3.65 -2.4,-3.35 -1.15,-3.35 ; -1.15,-2.65 -2.4,-2.65 -2.4,-2.35 -1.15,-2.35 ; -1.15,-1.65 -2.4,-1.65 -2.4,-1.35 -1.15,-1.35 ; -1.15,-0.65 -2.4,-0.65 -2.4,-0.35 -1.15,-0.35 ; -1.15,0.35 -2.4,0.35 -2.4,0.65 -1.15,0.65 ; -1.15,1.35 -2.4,1.35 -2.4,1.65 -1.15,1.65 ; -1.15,2.35 -2.4,2.35 -2.4,2.65 -1.15,2.65 ; -1.15,3.35 -2.4,3.35 -2.4,3.65 -1.15,3.65 ; -1.15,4.35 -2.4,4.35 -2.4,4.65 -1.15,4.65 ; -1.15,5.35 -2.4,5.35 -2.4,5.65 -1.15,5.65 ; -1.15,6.35 -2.4,6.35 -2.4,6.65 -1.15,6.65 ; -1.15,7.35 -2.4,7.35 -2.4,7.65 -1.15,7.65 ; -1.15,8.35 -2.4,8.35 -2.4,8.65 -1.15,8.65 ; -1.15,9.35 -2.4,9.35 -2.4,9.65 -1.15,9.65 ; 1.15,-9.65 2.4,-9.65 2.4,-9.35 1.15,-9.35 ; 1.15,-8.65 2.4,-8.65 2.4,-8.35 1.15,-8.35 ; 1.15,-7.65 2.4,-7.65 2.4,-7.35 1.15,-7.35 ; 1.15,-6.65 2.4,-6.65 2.4,-6.35 1.15,-6.35 ; 1.15,-5.65 2.4,-5.65 2.4,-5.35 1.15,-5.35 ; 1.15,-4.65 2.4,-4.65 2.4,-4.35 1.15,-4.35 ; 1.15,-3.65 2.4,-3.65 2.4,-3.35 1.15,-3.35 ; 1.15,-2.65 2.4,-2.65 2.4,-2.35 1.15,-2.35 ; 1.15,-1.65 2.4,-1.65 2.4,-1.35 1.15,-1.35 ; 1.15,-0.65 2.4,-0.65 2.4,-0.35 1.15,-0.35 ; 1.15,0.35 2.4,0.35 2.4,0.65 1.15,0.65 ; 1.15,1.35 2.4,1.35 2.4,1.65 1.15,1.65 ; 1.15,2.35 2.4,2.35 2.4,2.65 1.15,2.65 ; 1.15,3.35 2.4,3.35 2.4,3.65 1.15,3.65 ; 1.15,4.35 2.4,4.35 2.4,4.65 1.15,4.65 ; 1.15,5.35 2.4,5.35 2.4,5.65 1.15,5.65 ; 1.15,6.35 2.4,6.35 2.4,6.65 1.15,6.65 ; 1.15,7.35 2.4,7.35 2.4,7.65 1.15,7.65 ; 1.15,8.35 2.4,8.35 2.4,8.65 1.15,8.65 ; 1.15,9.35 2.4,9.35 2.4,9.65 1.15,9.65 ; -1.15,9.65 -1.15,-10 1.15,-10 1.15,10 -0.8,10 -1.15,9.65
  text "'.Designator'" at 0.84,-4.047 h1
Top Courtyard:
  lines w0.254: -3.65,-10.5 3.65,-10.5 3.65,10.5 -3.65,10.5 -3.65,-10.5
Top Designator:
  text ".Designator" at -7.618,-0.508 h1.52

## PinHeader_2x21_P1.00mm_Horizontal [mm]
pads (42):
  rect 0.85x0.85 hole 0.5: 1(0,0)
  round 0.85 hole 0.5: 2(1,0) 3(0,-1) 4(1,-1) 5(0,-2) 6(1,-2) 7(0,-3) 8(1,-3) 9(0,-4) 10(1,-4) 11(0,-5) 12(1,-5) 13(0,-6) 14(1,-6) 15(0,-7) 16(1,-7) 17(0,-8) 18(1,-8) 19(0,-9) 20(1,-9) 21(0,-10) 22(1,-10) 23(0,-11) 24(1,-11) 25(0,-12) 26(1,-12) 27(0,-13) 28(1,-13) 29(0,-14) 30(1,-14) 31(0,-15) 32(1,-15) 33(0,-16) 34(1,-16) 35(0,-17) 36(1,-17) 37(0,-18) 38(1,-18) 39(0,-19) 40(1,-19) 41(0,-20) 42(1,-20)
F.SilkS:
  lines w0.254: -0.735,0 -0.735,0.735 0,0.735 ; 1.687,-20.26 1.79,-20.26 ; 1.687,-19.74 1.79,-19.74 ; 1.687,-19.26 1.79,-19.26 ; 1.687,-18.74 1.79,-18.74 ; 1.687,-18.26 1.79,-18.26 ; 1.687,-17.74 1.79,-17.74 ; 1.687,-17.26 1.79,-17.26 ; 1.687,-16.74 1.79,-16.74 ; 1.687,-16.26 1.79,-16.26 ; 1.687,-15.74 1.79,-15.74 ; 1.687,-15.26 1.79,-15.26 ; 1.687,-14.74 1.79,-14.74 ; 1.687,-14.26 1.79,-14.26 ; 1.687,-13.74 1.79,-13.74 ; 1.687,-13.26 1.79,-13.26 ; 1.687,-12.74 1.79,-12.74 ; 1.687,-12.26 1.79,-12.26 ; 1.687,-11.74 1.79,-11.74 ; 1.687,-11.26 1.79,-11.26 ; 1.687,-10.74 1.79,-10.74 ; 1.687,-10.26 1.79,-10.26 ; 1.687,-9.74 1.79,-9.74 ; 1.687,-9.26 1.79,-9.26 ; 1.687,-8.74 1.79,-8.74 ; 1.687,-8.26 1.79,-8.26 ; 1.687,-7.74 1.79,-7.74 ; 1.687,-7.26 1.79,-7.26 ; 1.687,-6.74 1.79,-6.74 ; 1.687,-6.26 1.79,-6.26 ; 1.687,-5.74 1.79,-5.74 ; 1.687,-5.26 1.79,-5.26 ; 1.687,-4.74 1.79,-4.74 ; 1.687,-4.26 1.79,-4.26 ; 1.687,-3.74 1.79,-3.74 ; 1.687,-3.26 1.79,-3.26 ; 1.687,-2.74 1.79,-2.74 ; 1.687,-2.26 1.79,-2.26 ; 1.687,-1.74 1.79,-1.74 ; 1.687,-1.26 1.79,-1.26 ; 1.687,-0.74 1.79,-0.74 ; 1.687,-0.26 1.79,-0.26 ; 1.687,0.26 1.79,0.26 ; 1.79,-19.5 3.21,-19.5 ; 1.79,-18.5 3.21,-18.5 ; 1.79,-17.5 3.21,-17.5 ; 1.79,-16.5 3.21,-16.5 ; 1.79,-15.5 3.21,-15.5 ; 1.79,-14.5 3.21,-14.5 ; 1.79,-13.5 3.21,-13.5 ; 1.79,-12.5 3.21,-12.5 ; 1.79,-11.5 3.21,-11.5 ; 1.79,-10.5 3.21,-10.5 ; 1.79,-9.5 3.21,-9.5 ; 1.79,-8.5 3.21,-8.5 ; 1.79,-7.5 3.21,-7.5 ; 1.79,-6.5 3.21,-6.5 ; 1.79,-5.5 3.21,-5.5 ; 1.79,-4.5 3.21,-4.5 ; 1.79,-3.5 3.21,-3.5 ; 1.79,-2.5 3.21,-2.5 ; 1.79,-1.5 3.21,-1.5 ; 1.79,-0.5 3.21,-0.5 ; 3.21,-20.26 5.21,-20.26 5.21,-19.74 3.21,-19.74 ; 3.21,-19.26 5.21,-19.26 5.21,-18.74 3.21,-18.74 ; 3.21,-18.26 5.21,-18.26 5.21,-17.74 3.21,-17.74 ; 3.21,-17.26 5.21,-17.26 5.21,-16.74 3.21,-16.74 ; 3.21,-16.26 5.21,-16.26 5.21,-15.74 3.21,-15.74 ; 3.21,-15.26 5.21,-15.26 5.21,-14.74 3.21,-14.74 ; 3.21,-14.26 5.21,-14.26 5.21,-13.74 3.21,-13.74 ; 3.21,-13.26 5.21,-13.26 5.21,-12.74 3.21,-12.74 ; 3.21,-12.26 5.21,-12.26 5.21,-11.74 3.21,-11.74 ; 3.21,-11.26 5.21,-11.26 5.21,-10.74 3.21,-10.74 ; 3.21,-10.26 5.21,-10.26 5.21,-9.74 3.21,-9.74 ; 3.21,-9.26 5.21,-9.26 5.21,-8.74 3.21,-8.74 ; 3.21,-8.26 5.21,-8.26 5.21,-7.74 3.21,-7.74 ; 3.21,-7.26 5.21,-7.26 5.21,-6.74 3.21,-6.74 ; 3.21,-6.26 5.21,-6.26 5.21,-5.74 3.21,-5.74 ; 3.21,-5.26 5.21,-5.26 5.21,-4.74 3.21,-4.74 ; 3.21,-4.26 5.21,-4.26 5.21,-3.74 3.21,-3.74 ; 3.21,-3.26 5.21,-3.26 5.21,-2.74 3.21,-2.74 ; 3.21,-2.26 5.21,-2.26 5.21,-1.74 3.21,-1.74 ; 3.21,-1.26 5.21,-1.26 5.21,-0.74 3.21,-0.74 ; 1.79,-20.61 3.21,-20.61 3.21,0.61 1.79,0.61 1.79,-20.61 ; 3.21,-0.26 5.21,-0.26 5.21,0.26 3.21,0.26 3.21,-0.26
Top Assembly:
  lines w0.254: 1.9,-20.15 -0.15,-20.15 -0.15,-19.85 1.9,-19.85 ; 1.9,-19.15 -0.15,-19.15 -0.15,-18.85 1.9,-18.85 ; 1.9,-18.15 -0.15,-18.15 -0.15,-17.85 1.9,-17.85 ; 1.9,-17.15 -0.15,-17.15 -0.15,-16.85 1.9,-16.85 ; 1.9,-16.15 -0.15,-16.15 -0.15,-15.85 1.9,-15.85 ; 1.9,-15.15 -0.15,-15.15 -0.15,-14.85 1.9,-14.85 ; 1.9,-14.15 -0.15,-14.15 -0.15,-13.85 1.9,-13.85 ; 1.9,-13.15 -0.15,-13.15 -0.15,-12.85 1.9,-12.85 ; 1.9,-12.15 -0.15,-12.15 -0.15,-11.85 1.9,-11.85 ; 1.9,-11.15 -0.15,-11.15 -0.15,-10.85 1.9,-10.85 ; 1.9,-10.15 -0.15,-10.15 -0.15,-9.85 1.9,-9.85 ; 1.9,-9.15 -0.15,-9.15 -0.15,-8.85 1.9,-8.85 ; 1.9,-8.15 -0.15,-8.15 -0.15,-7.85 1.9,-7.85 ; 1.9,-7.15 -0.15,-7.15 -0.15,-6.85 1.9,-6.85 ; 1.9,-6.15 -0.15,-6.15 -0.15,-5.85 1.9,-5.85 ; 1.9,-5.15 -0.15,-5.15 -0.15,-4.85 1.9,-4.85 ; 1.9,-4.15 -0.15,-4.15 -0.15,-3.85 1.9,-3.85 ; 1.9,-3.15 -0.15,-3.15 -0.15,-2.85 1.9,-2.85 ; 1.9,-2.15 -0.15,-2.15 -0.15,-1.85 1.9,-1.85 ; 1.9,-1.15 -0.15,-1.15 -0.15,-0.85 1.9,-0.85 ; 1.9,-0.15 -0.15,-0.15 -0.15,0.15 1.9,0.15 ; 3.1,-20.15 5.1,-20.15 5.1,-19.85 3.1,-19.85 ; 3.1,-19.15 5.1,-19.15 5.1,-18.85 3.1,-18.85 ; 3.1,-18.15 5.1,-18.15 5.1,-17.85 3.1,-17.85 ; 3.1,-17.15 5.1,-17.15 5.1,-16.85 3.1,-16.85 ; 3.1,-16.15 5.1,-16.15 5.1,-15.85 3.1,-15.85 ; 3.1,-15.15 5.1,-15.15 5.1,-14.85 3.1,-14.85 ; 3.1,-14.15 5.1,-14.15 5.1,-13.85 3.1,-13.85 ; 3.1,-13.15 5.1,-13.15 5.1,-12.85 3.1,-12.85 ; 3.1,-12.15 5.1,-12.15 5.1,-11.85 3.1,-11.85 ; 3.1,-11.15 5.1,-11.15 5.1,-10.85 3.1,-10.85 ; 3.1,-10.15 5.1,-10.15 5.1,-9.85 3.1,-9.85 ; 3.1,-9.15 5.1,-9.15 5.1,-8.85 3.1,-8.85 ; 3.1,-8.15 5.1,-8.15 5.1,-7.85 3.1,-7.85 ; 3.1,-7.15 5.1,-7.15 5.1,-6.85 3.1,-6.85 ; 3.1,-6.15 5.1,-6.15 5.1,-5.85 3.1,-5.85 ; 3.1,-5.15 5.1,-5.15 5.1,-4.85 3.1,-4.85 ; 3.1,-4.15 5.1,-4.15 5.1,-3.85 3.1,-3.85 ; 3.1,-3.15 5.1,-3.15 5.1,-2.85 3.1,-2.85 ; 3.1,-2.15 5.1,-2.15 5.1,-1.85 3.1,-1.85 ; 3.1,-1.15 5.1,-1.15 5.1,-0.85 3.1,-0.85 ; 3.1,-0.15 5.1,-0.15 5.1,0.15 3.1,0.15 ; 1.9,-20.5 3.1,-20.5 3.1,0.5 2.2,0.5 1.9,0.2 1.9,-20.5
  text "'.Designator'" at 3.105,-12.914 h0.72
Top Courtyard:
  lines w0.254: -1,-21 5.6,-21 5.6,1 -1,1 -1,-21
Top Designator:
  text ".Designator" at -5.318,-10.508 h1.52

## PinHeader_2x21_P1.00mm_Vertical [mm]
pads (42):
  rect 0.85x0.85 hole 0.5: 1(0,0)
  round 0.85 hole 0.5: 2(1,0) 3(0,-1) 4(1,-1) 5(0,-2) 6(1,-2) 7(0,-3) 8(1,-3) 9(0,-4) 10(1,-4) 11(0,-5) 12(1,-5) 13(0,-6) 14(1,-6) 15(0,-7) 16(1,-7) 17(0,-8) 18(1,-8) 19(0,-9) 20(1,-9) 21(0,-10) 22(1,-10) 23(0,-11) 24(1,-11) 25(0,-12) 26(1,-12) 27(0,-13) 28(1,-13) 29(0,-14) 30(1,-14) 31(0,-15) 32(1,-15) 33(0,-16) 34(1,-16) 35(0,-17) 36(1,-17) 37(0,-18) 38(1,-18) 39(0,-19) 40(1,-19) 41(0,-20) 42(1,-20)
F.SilkS:
  lines w0.254: -0.76,0 -0.76,0.735 0,0.735 ; -0.686,-0.735 -0.76,-0.735 -0.76,-20.61 -0.41,-20.61 ; 0.41,-20.61 0.59,-20.61 ; 1.41,-20.61 1.76,-20.61 1.76,0.61 1.41,0.61
Top Assembly:
  lines w0.254: -0.65,-20.5 1.65,-20.5 1.65,0.5 -0.075,0.5 -0.65,-0.075 -0.65,-20.5
  text "'.Designator'" at 1.34,-14.047 h1
Top Courtyard:
  lines w0.254: -1.15,-21 2.15,-21 2.15,1 -1.15,1 -1.15,-21
Top Designator:
  text ".Designator" at -7.118,-10.508 h1.52

## PinHeader_2x21_P1.00mm_Vertical_SMD [mm]
pads (42):
  rect 2x0.5 smd: 1(-1.65,10) 2(1.65,10) 3(-1.65,9) 4(1.65,9) 5(-1.65,8) 6(1.65,8) 7(-1.65,7) 8(1.65,7) 9(-1.65,6) 10(1.65,6) 11(-1.65,5) 12(1.65,5) 13(-1.65,4) 14(1.65,4) 15(-1.65,3) 16(1.65,3) 17(-1.65,2) 18(1.65,2) 19(-1.65,1) 20(1.65,1) 21(-1.65,0) 22(1.65,0) 23(-1.65,-1) 24(1.65,-1) 25(-1.65,-2) 26(1.65,-2) 27(-1.65,-3) 28(1.65,-3) 29(-1.65,-4) 30(1.65,-4) 31(-1.65,-5) 32(1.65,-5) 33(-1.65,-6) 34(1.65,-6) 35(-1.65,-7) 36(1.65,-7) 37(-1.65,-8) 38(1.65,-8) 39(-1.65,-9) 40(1.65,-9) 41(-1.65,-10) 42(1.65,-10)
F.SilkS:
  lines w0.254: -2.59,10.56 -1.26,10.56 -1.26,10.61 1.26,10.61 1.26,10.56 ; -1.26,-10.56 -1.26,-10.61 1.26,-10.61 1.26,-10.56
Top Assembly:
  lines w0.254: -1.15,-10.15 -2.4,-10.15 -2.4,-9.85 -1.15,-9.85 ; -1.15,-9.15 -2.4,-9.15 -2.4,-8.85 -1.15,-8.85 ; -1.15,-8.15 -2.4,-8.15 -2.4,-7.85 -1.15,-7.85 ; -1.15,-7.15 -2.4,-7.15 -2.4,-6.85 -1.15,-6.85 ; -1.15,-6.15 -2.4,-6.15 -2.4,-5.85 -1.15,-5.85 ; -1.15,-5.15 -2.4,-5.15 -2.4,-4.85 -1.15,-4.85 ; -1.15,-4.15 -2.4,-4.15 -2.4,-3.85 -1.15,-3.85 ; -1.15,-3.15 -2.4,-3.15 -2.4,-2.85 -1.15,-2.85 ; -1.15,-2.15 -2.4,-2.15 -2.4,-1.85 -1.15,-1.85 ; -1.15,-1.15 -2.4,-1.15 -2.4,-0.85 -1.15,-0.85 ; -1.15,-0.15 -2.4,-0.15 -2.4,0.15 -1.15,0.15 ; -1.15,0.85 -2.4,0.85 -2.4,1.15 -1.15,1.15 ; -1.15,1.85 -2.4,1.85 -2.4,2.15 -1.15,2.15 ; -1.15,2.85 -2.4,2.85 -2.4,3.15 -1.15,3.15 ; -1.15,3.85 -2.4,3.85 -2.4,4.15 -1.15,4.15 ; -1.15,4.85 -2.4,4.85 -2.4,5.15 -1.15,5.15 ; -1.15,5.85 -2.4,5.85 -2.4,6.15 -1.15,6.15 ; -1.15,6.85 -2.4,6.85 -2.4,7.15 -1.15,7.15 ; -1.15,7.85 -2.4,7.85 -2.4,8.15 -1.15,8.15 ; -1.15,8.85 -2.4,8.85 -2.4,9.15 -1.15,9.15 ; -1.15,9.85 -2.4,9.85 -2.4,10.15 -1.15,10.15 ; 1.15,-10.15 2.4,-10.15 2.4,-9.85 1.15,-9.85 ; 1.15,-9.15 2.4,-9.15 2.4,-8.85 1.15,-8.85 ; 1.15,-8.15 2.4,-8.15 2.4,-7.85 1.15,-7.85 ; 1.15,-7.15 2.4,-7.15 2.4,-6.85 1.15,-6.85 ; 1.15,-6.15 2.4,-6.15 2.4,-5.85 1.15,-5.85 ; 1.15,-5.15 2.4,-5.15 2.4,-4.85 1.15,-4.85 ; 1.15,-4.15 2.4,-4.15 2.4,-3.85 1.15,-3.85 ; 1.15,-3.15 2.4,-3.15 2.4,-2.85 1.15,-2.85 ; 1.15,-2.15 2.4,-2.15 2.4,-1.85 1.15,-1.85 ; 1.15,-1.15 2.4,-1.15 2.4,-0.85 1.15,-0.85 ; 1.15,-0.15 2.4,-0.15 2.4,0.15 1.15,0.15 ; 1.15,0.85 2.4,0.85 2.4,1.15 1.15,1.15 ; 1.15,1.85 2.4,1.85 2.4,2.15 1.15,2.15 ; 1.15,2.85 2.4,2.85 2.4,3.15 1.15,3.15 ; 1.15,3.85 2.4,3.85 2.4,4.15 1.15,4.15 ; 1.15,4.85 2.4,4.85 2.4,5.15 1.15,5.15 ; 1.15,5.85 2.4,5.85 2.4,6.15 1.15,6.15 ; 1.15,6.85 2.4,6.85 2.4,7.15 1.15,7.15 ; 1.15,7.85 2.4,7.85 2.4,8.15 1.15,8.15 ; 1.15,8.85 2.4,8.85 2.4,9.15 1.15,9.15 ; 1.15,9.85 2.4,9.85 2.4,10.15 1.15,10.15 ; -1.15,10.15 -1.15,-10.5 1.15,-10.5 1.15,10.5 -0.8,10.5 -1.15,10.15
  text "'.Designator'" at 0.84,-4.047 h1
Top Courtyard:
  lines w0.254: -3.65,-11 3.65,-11 3.65,11 -3.65,11 -3.65,-11
Top Designator:
  text ".Designator" at -7.618,-0.508 h1.52

## PinHeader_2x22_P1.00mm_Horizontal [mm]
pads (44):
  rect 0.85x0.85 hole 0.5: 1(0,0)
  round 0.85 hole 0.5: 2(1,0) 3(0,-1) 4(1,-1) 5(0,-2) 6(1,-2) 7(0,-3) 8(1,-3) 9(0,-4) 10(1,-4) 11(0,-5) 12(1,-5) 13(0,-6) 14(1,-6) 15(0,-7) 16(1,-7) 17(0,-8) 18(1,-8) 19(0,-9) 20(1,-9) 21(0,-10) 22(1,-10) 23(0,-11) 24(1,-11) 25(0,-12) 26(1,-12) 27(0,-13) 28(1,-13) 29(0,-14) 30(1,-14) 31(0,-15) 32(1,-15) 33(0,-16) 34(1,-16) 35(0,-17) 36(1,-17) 37(0,-18) 38(1,-18) 39(0,-19) 40(1,-19) 41(0,-20) 42(1,-20) 43(0,-21) 44(1,-21)
F.SilkS:
  lines w0.254: -0.735,0 -0.735,0.735 0,0.735 ; 1.687,-21.26 1.79,-21.26 ; 1.687,-20.74 1.79,-20.74 ; 1.687,-20.26 1.79,-20.26 ; 1.687,-19.74 1.79,-19.74 ; 1.687,-19.26 1.79,-19.26 ; 1.687,-18.74 1.79,-18.74 ; 1.687,-18.26 1.79,-18.26 ; 1.687,-17.74 1.79,-17.74 ; 1.687,-17.26 1.79,-17.26 ; 1.687,-16.74 1.79,-16.74 ; 1.687,-16.26 1.79,-16.26 ; 1.687,-15.74 1.79,-15.74 ; 1.687,-15.26 1.79,-15.26 ; 1.687,-14.74 1.79,-14.74 ; 1.687,-14.26 1.79,-14.26 ; 1.687,-13.74 1.79,-13.74 ; 1.687,-13.26 1.79,-13.26 ; 1.687,-12.74 1.79,-12.74 ; 1.687,-12.26 1.79,-12.26 ; 1.687,-11.74 1.79,-11.74 ; 1.687,-11.26 1.79,-11.26 ; 1.687,-10.74 1.79,-10.74 ; 1.687,-10.26 1.79,-10.26 ; 1.687,-9.74 1.79,-9.74 ; 1.687,-9.26 1.79,-9.26 ; 1.687,-8.74 1.79,-8.74 ; 1.687,-8.26 1.79,-8.26 ; 1.687,-7.74 1.79,-7.74 ; 1.687,-7.26 1.79,-7.26 ; 1.687,-6.74 1.79,-6.74 ; 1.687,-6.26 1.79,-6.26 ; 1.687,-5.74 1.79,-5.74 ; 1.687,-5.26 1.79,-5.26 ; 1.687,-4.74 1.79,-4.74 ; 1.687,-4.26 1.79,-4.26 ; 1.687,-3.74 1.79,-3.74 ; 1.687,-3.26 1.79,-3.26 ; 1.687,-2.74 1.79,-2.74 ; 1.687,-2.26 1.79,-2.26 ; 1.687,-1.74 1.79,-1.74 ; 1.687,-1.26 1.79,-1.26 ; 1.687,-0.74 1.79,-0.74 ; 1.687,-0.26 1.79,-0.26 ; 1.687,0.26 1.79,0.26 ; 1.79,-20.5 3.21,-20.5 ; 1.79,-19.5 3.21,-19.5 ; 1.79,-18.5 3.21,-18.5 ; 1.79,-17.5 3.21,-17.5 ; 1.79,-16.5 3.21,-16.5 ; 1.79,-15.5 3.21,-15.5 ; 1.79,-14.5 3.21,-14.5 ; 1.79,-13.5 3.21,-13.5 ; 1.79,-12.5 3.21,-12.5 ; 1.79,-11.5 3.21,-11.5 ; 1.79,-10.5 3.21,-10.5 ; 1.79,-9.5 3.21,-9.5 ; 1.79,-8.5 3.21,-8.5 ; 1.79,-7.5 3.21,-7.5 ; 1.79,-6.5 3.21,-6.5 ; 1.79,-5.5 3.21,-5.5 ; 1.79,-4.5 3.21,-4.5 ; 1.79,-3.5 3.21,-3.5 ; 1.79,-2.5 3.21,-2.5 ; 1.79,-1.5 3.21,-1.5 ; 1.79,-0.5 3.21,-0.5 ; 3.21,-21.26 5.21,-21.26 5.21,-20.74 3.21,-20.74 ; 3.21,-20.26 5.21,-20.26 5.21,-19.74 3.21,-19.74 ; 3.21,-19.26 5.21,-19.26 5.21,-18.74 3.21,-18.74 ; 3.21,-18.26 5.21,-18.26 5.21,-17.74 3.21,-17.74 ; 3.21,-17.26 5.21,-17.26 5.21,-16.74 3.21,-16.74 ; 3.21,-16.26 5.21,-16.26 5.21,-15.74 3.21,-15.74 ; 3.21,-15.26 5.21,-15.26 5.21,-14.74 3.21,-14.74 ; 3.21,-14.26 5.21,-14.26 5.21,-13.74 3.21,-13.74 ; 3.21,-13.26 5.21,-13.26 5.21,-12.74 3.21,-12.74 ; 3.21,-12.26 5.21,-12.26 5.21,-11.74 3.21,-11.74 ; 3.21,-11.26 5.21,-11.26 5.21,-10.74 3.21,-10.74 ; 3.21,-10.26 5.21,-10.26 5.21,-9.74 3.21,-9.74 ; 3.21,-9.26 5.21,-9.26 5.21,-8.74 3.21,-8.74 ; 3.21,-8.26 5.21,-8.26 5.21,-7.74 3.21,-7.74 ; 3.21,-7.26 5.21,-7.26 5.21,-6.74 3.21,-6.74 ; 3.21,-6.26 5.21,-6.26 5.21,-5.74 3.21,-5.74 ; 3.21,-5.26 5.21,-5.26 5.21,-4.74 3.21,-4.74 ; 3.21,-4.26 5.21,-4.26 5.21,-3.74 3.21,-3.74 ; 3.21,-3.26 5.21,-3.26 5.21,-2.74 3.21,-2.74 ; 3.21,-2.26 5.21,-2.26 5.21,-1.74 3.21,-1.74 ; 3.21,-1.26 5.21,-1.26 5.21,-0.74 3.21,-0.74 ; 1.79,-21.61 3.21,-21.61 3.21,0.61 1.79,0.61 1.79,-21.61 ; 3.21,-0.26 5.21,-0.26 5.21,0.26 3.21,0.26 3.21,-0.26
Top Assembly:
  lines w0.254: 1.9,-21.15 -0.15,-21.15 -0.15,-20.85 1.9,-20.85 ; 1.9,-20.15 -0.15,-20.15 -0.15,-19.85 1.9,-19.85 ; 1.9,-19.15 -0.15,-19.15 -0.15,-18.85 1.9,-18.85 ; 1.9,-18.15 -0.15,-18.15 -0.15,-17.85 1.9,-17.85 ; 1.9,-17.15 -0.15,-17.15 -0.15,-16.85 1.9,-16.85 ; 1.9,-16.15 -0.15,-16.15 -0.15,-15.85 1.9,-15.85 ; 1.9,-15.15 -0.15,-15.15 -0.15,-14.85 1.9,-14.85 ; 1.9,-14.15 -0.15,-14.15 -0.15,-13.85 1.9,-13.85 ; 1.9,-13.15 -0.15,-13.15 -0.15,-12.85 1.9,-12.85 ; 1.9,-12.15 -0.15,-12.15 -0.15,-11.85 1.9,-11.85 ; 1.9,-11.15 -0.15,-11.15 -0.15,-10.85 1.9,-10.85 ; 1.9,-10.15 -0.15,-10.15 -0.15,-9.85 1.9,-9.85 ; 1.9,-9.15 -0.15,-9.15 -0.15,-8.85 1.9,-8.85 ; 1.9,-8.15 -0.15,-8.15 -0.15,-7.85 1.9,-7.85 ; 1.9,-7.15 -0.15,-7.15 -0.15,-6.85 1.9,-6.85 ; 1.9,-6.15 -0.15,-6.15 -0.15,-5.85 1.9,-5.85 ; 1.9,-5.15 -0.15,-5.15 -0.15,-4.85 1.9,-4.85 ; 1.9,-4.15 -0.15,-4.15 -0.15,-3.85 1.9,-3.85 ; 1.9,-3.15 -0.15,-3.15 -0.15,-2.85 1.9,-2.85 ; 1.9,-2.15 -0.15,-2.15 -0.15,-1.85 1.9,-1.85 ; 1.9,-1.15 -0.15,-1.15 -0.15,-0.85 1.9,-0.85 ; 1.9,-0.15 -0.15,-0.15 -0.15,0.15 1.9,0.15 ; 3.1,-21.15 5.1,-21.15 5.1,-20.85 3.1,-20.85 ; 3.1,-20.15 5.1,-20.15 5.1,-19.85 3.1,-19.85 ; 3.1,-19.15 5.1,-19.15 5.1,-18.85 3.1,-18.85 ; 3.1,-18.15 5.1,-18.15 5.1,-17.85 3.1,-17.85 ; 3.1,-17.15 5.1,-17.15 5.1,-16.85 3.1,-16.85 ; 3.1,-16.15 5.1,-16.15 5.1,-15.85 3.1,-15.85 ; 3.1,-15.15 5.1,-15.15 5.1,-14.85 3.1,-14.85 ; 3.1,-14.15 5.1,-14.15 5.1,-13.85 3.1,-13.85 ; 3.1,-13.15 5.1,-13.15 5.1,-12.85 3.1,-12.85 ; 3.1,-12.15 5.1,-12.15 5.1,-11.85 3.1,-11.85 ; 3.1,-11.15 5.1,-11.15 5.1,-10.85 3.1,-10.85 ; 3.1,-10.15 5.1,-10.15 5.1,-9.85 3.1,-9.85 ; 3.1,-9.15 5.1,-9.15 5.1,-8.85 3.1,-8.85 ; 3.1,-8.15 5.1,-8.15 5.1,-7.85 3.1,-7.85 ; 3.1,-7.15 5.1,-7.15 5.1,-6.85 3.1,-6.85 ; 3.1,-6.15 5.1,-6.15 5.1,-5.85 3.1,-5.85 ; 3.1,-5.15 5.1,-5.15 5.1,-4.85 3.1,-4.85 ; 3.1,-4.15 5.1,-4.15 5.1,-3.85 3.1,-3.85 ; 3.1,-3.15 5.1,-3.15 5.1,-2.85 3.1,-2.85 ; 3.1,-2.15 5.1,-2.15 5.1,-1.85 3.1,-1.85 ; 3.1,-1.15 5.1,-1.15 5.1,-0.85 3.1,-0.85 ; 3.1,-0.15 5.1,-0.15 5.1,0.15 3.1,0.15 ; 1.9,-21.5 3.1,-21.5 3.1,0.5 2.2,0.5 1.9,0.2 1.9,-21.5
  text "'.Designator'" at 3.105,-13.414 h0.72
Top Courtyard:
  lines w0.254: -1,-22 5.6,-22 5.6,1 -1,1 -1,-22
Top Designator:
  text ".Designator" at -5.318,-11.008 h1.52

## PinHeader_2x22_P1.00mm_Vertical [mm]
pads (44):
  rect 0.85x0.85 hole 0.5: 1(0,0)
  round 0.85 hole 0.5: 2(1,0) 3(0,-1) 4(1,-1) 5(0,-2) 6(1,-2) 7(0,-3) 8(1,-3) 9(0,-4) 10(1,-4) 11(0,-5) 12(1,-5) 13(0,-6) 14(1,-6) 15(0,-7) 16(1,-7) 17(0,-8) 18(1,-8) 19(0,-9) 20(1,-9) 21(0,-10) 22(1,-10) 23(0,-11) 24(1,-11) 25(0,-12) 26(1,-12) 27(0,-13) 28(1,-13) 29(0,-14) 30(1,-14) 31(0,-15) 32(1,-15) 33(0,-16) 34(1,-16) 35(0,-17) 36(1,-17) 37(0,-18) 38(1,-18) 39(0,-19) 40(1,-19) 41(0,-20) 42(1,-20) 43(0,-21) 44(1,-21)
F.SilkS:
  lines w0.254: -0.76,0 -0.76,0.735 0,0.735 ; -0.686,-0.735 -0.76,-0.735 -0.76,-21.61 -0.41,-21.61 ; 0.41,-21.61 0.59,-21.61 ; 1.41,-21.61 1.76,-21.61 1.76,0.61 1.41,0.61
Top Assembly:
  lines w0.254: -0.65,-21.5 1.65,-21.5 1.65,0.5 -0.075,0.5 -0.65,-0.075 -0.65,-21.5
  text "'.Designator'" at 1.34,-14.547 h1
Top Courtyard:
  lines w0.254: -1.15,-22 2.15,-22 2.15,1 -1.15,1 -1.15,-22
Top Designator:
  text ".Designator" at -7.118,-11.008 h1.52

## PinHeader_2x22_P1.00mm_Vertical_SMD [mm]
pads (44):
  rect 2x0.5 smd: 1(-1.65,10.5) 2(1.65,10.5) 3(-1.65,9.5) 4(1.65,9.5) 5(-1.65,8.5) 6(1.65,8.5) 7(-1.65,7.5) 8(1.65,7.5) 9(-1.65,6.5) 10(1.65,6.5) 11(-1.65,5.5) 12(1.65,5.5) 13(-1.65,4.5) 14(1.65,4.5) 15(-1.65,3.5) 16(1.65,3.5) 17(-1.65,2.5) 18(1.65,2.5) 19(-1.65,1.5) 20(1.65,1.5) 21(-1.65,0.5) 22(1.65,0.5) 23(-1.65,-0.5) 24(1.65,-0.5) 25(-1.65,-1.5) 26(1.65,-1.5) 27(-1.65,-2.5) 28(1.65,-2.5) 29(-1.65,-3.5) 30(1.65,-3.5) 31(-1.65,-4.5) 32(1.65,-4.5) 33(-1.65,-5.5) 34(1.65,-5.5) 35(-1.65,-6.5) 36(1.65,-6.5) 37(-1.65,-7.5) 38(1.65,-7.5) 39(-1.65,-8.5) 40(1.65,-8.5) 41(-1.65,-9.5) 42(1.65,-9.5) 43(-1.65,-10.5) 44(1.65,-10.5)
F.SilkS:
  lines w0.254: -2.59,11.06 -1.26,11.06 -1.26,11.11 1.26,11.11 1.26,11.06 ; -1.26,-11.06 -1.26,-11.11 1.26,-11.11 1.26,-11.06
Top Assembly:
  lines w0.254: -1.15,-10.65 -2.4,-10.65 -2.4,-10.35 -1.15,-10.35 ; -1.15,-9.65 -2.4,-9.65 -2.4,-9.35 -1.15,-9.35 ; -1.15,-8.65 -2.4,-8.65 -2.4,-8.35 -1.15,-8.35 ; -1.15,-7.65 -2.4,-7.65 -2.4,-7.35 -1.15,-7.35 ; -1.15,-6.65 -2.4,-6.65 -2.4,-6.35 -1.15,-6.35 ; -1.15,-5.65 -2.4,-5.65 -2.4,-5.35 -1.15,-5.35 ; -1.15,-4.65 -2.4,-4.65 -2.4,-4.35 -1.15,-4.35 ; -1.15,-3.65 -2.4,-3.65 -2.4,-3.35 -1.15,-3.35 ; -1.15,-2.65 -2.4,-2.65 -2.4,-2.35 -1.15,-2.35 ; -1.15,-1.65 -2.4,-1.65 -2.4,-1.35 -1.15,-1.35 ; -1.15,-0.65 -2.4,-0.65 -2.4,-0.35 -1.15,-0.35 ; -1.15,0.35 -2.4,0.35 -2.4,0.65 -1.15,0.65 ; -1.15,1.35 -2.4,1.35 -2.4,1.65 -1.15,1.65 ; -1.15,2.35 -2.4,2.35 -2.4,2.65 -1.15,2.65 ; -1.15,3.35 -2.4,3.35 -2.4,3.65 -1.15,3.65 ; -1.15,4.35 -2.4,4.35 -2.4,4.65 -1.15,4.65 ; -1.15,5.35 -2.4,5.35 -2.4,5.65 -1.15,5.65 ; -1.15,6.35 -2.4,6.35 -2.4,6.65 -1.15,6.65 ; -1.15,7.35 -2.4,7.35 -2.4,7.65 -1.15,7.65 ; -1.15,8.35 -2.4,8.35 -2.4,8.65 -1.15,8.65 ; -1.15,9.35 -2.4,9.35 -2.4,9.65 -1.15,9.65 ; -1.15,10.35 -2.4,10.35 -2.4,10.65 -1.15,10.65 ; 1.15,-10.65 2.4,-10.65 2.4,-10.35 1.15,-10.35 ; 1.15,-9.65 2.4,-9.65 2.4,-9.35 1.15,-9.35 ; 1.15,-8.65 2.4,-8.65 2.4,-8.35 1.15,-8.35 ; 1.15,-7.65 2.4,-7.65 2.4,-7.35 1.15,-7.35 ; 1.15,-6.65 2.4,-6.65 2.4,-6.35 1.15,-6.35 ; 1.15,-5.65 2.4,-5.65 2.4,-5.35 1.15,-5.35 ; 1.15,-4.65 2.4,-4.65 2.4,-4.35 1.15,-4.35 ; 1.15,-3.65 2.4,-3.65 2.4,-3.35 1.15,-3.35 ; 1.15,-2.65 2.4,-2.65 2.4,-2.35 1.15,-2.35 ; 1.15,-1.65 2.4,-1.65 2.4,-1.35 1.15,-1.35 ; 1.15,-0.65 2.4,-0.65 2.4,-0.35 1.15,-0.35 ; 1.15,0.35 2.4,0.35 2.4,0.65 1.15,0.65 ; 1.15,1.35 2.4,1.35 2.4,1.65 1.15,1.65 ; 1.15,2.35 2.4,2.35 2.4,2.65 1.15,2.65 ; 1.15,3.35 2.4,3.35 2.4,3.65 1.15,3.65 ; 1.15,4.35 2.4,4.35 2.4,4.65 1.15,4.65 ; 1.15,5.35 2.4,5.35 2.4,5.65 1.15,5.65 ; 1.15,6.35 2.4,6.35 2.4,6.65 1.15,6.65 ; 1.15,7.35 2.4,7.35 2.4,7.65 1.15,7.65 ; 1.15,8.35 2.4,8.35 2.4,8.65 1.15,8.65 ; 1.15,9.35 2.4,9.35 2.4,9.65 1.15,9.65 ; 1.15,10.35 2.4,10.35 2.4,10.65 1.15,10.65 ; -1.15,10.65 -1.15,-11 1.15,-11 1.15,11 -0.8,11 -1.15,10.65
  text "'.Designator'" at 0.84,-4.047 h1
Top Courtyard:
  lines w0.254: -3.65,-11.5 3.65,-11.5 3.65,11.5 -3.65,11.5 -3.65,-11.5
Top Designator:
  text ".Designator" at -7.618,-0.508 h1.52